# Altium footprint library Display adapter 20 to 20p4.5.2.PcbLib: 6 footprints
Each footprint in its own frame and in the unit in brackets; x right, y up, seen from the top. Pads: shape width x height; smd on the part's side, far side on the other; paste and mask are expansions set on the pad; w line width, h text height; cw(c..) or ccw(c..) is an arc to the next point about the centre after c.
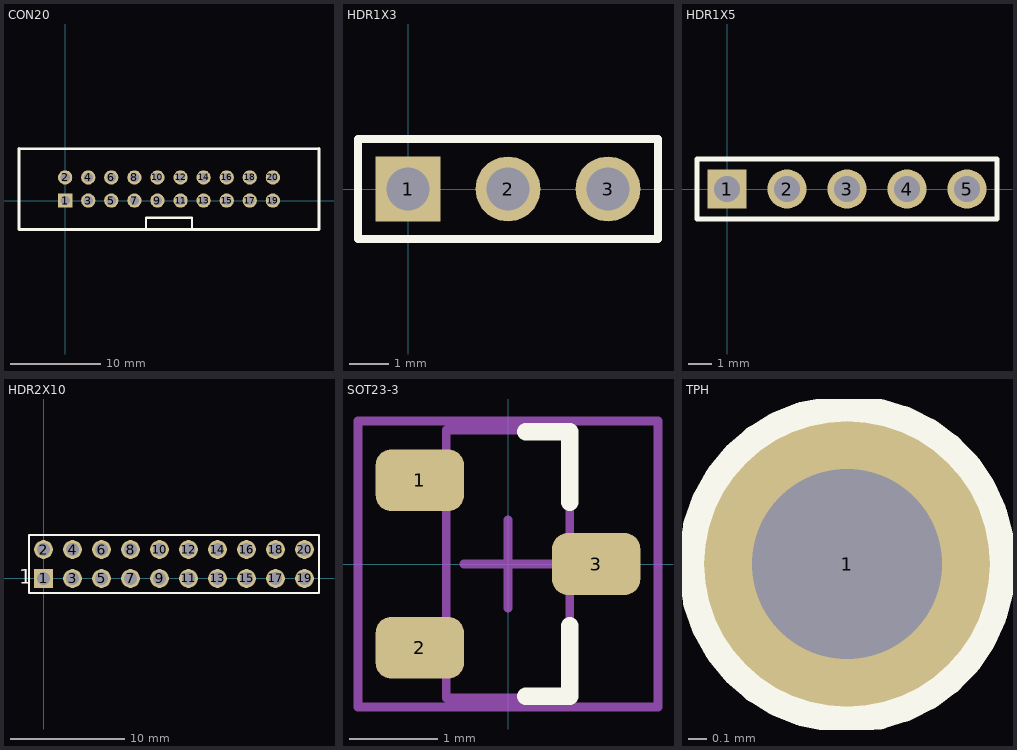
[diagram p0: the footprints below, top view; thin cyan lines are the x and y axes]

## CON20 [mil]
height 37.4
pads (20):
  rect 62x62 hole 40: 1(0,0)
  round 62 hole 40: 2(0,100) 3(100,0) 4(100,100) 5(200,0) 6(200,100) 7(300,0) 8(300,100) 9(400,0) 10(400,100) 11(500,0) 12(500,100) 13(600,0) 14(600,100) 15(700,0) 16(700,100) 17(800,0) 18(800,100) 19(900,0) 20(900,100)
Top Overlay:
  lines w10: -200,225 1100,225 ; 350,-125 350,-75 550,-75 550,-125
  lines w12: -200,225 -200,-125 1100,-125 1100,225

## HDR1X3 [mil]
height 47.24
pads (3):
  rect 65x65 hole 43.31: 1(0,0)
  round 65 hole 43.31: 2(100,0) 3(200,0)
Top Overlay:
  lines w7.87: -50,-50 -50,50 250,50 250,-50 -50,-50
3D body "User Library-Header_Male_3Pin.STEP": height 336.22, standoff -118.11, extent -50,-49.01 250,49.02

## HDR1X5 [mil]
pads (5):
  rect 65x65 hole 43.31: 1(0,0)
  round 65 hole 43.31: 2(100,0) 3(200,0) 4(300,0) 5(400,0)
Top Overlay:
  lines w7.87: -50,-50 -50,50 450,50 450,-50 -50,-50
3D body "User Library-Header_Male_5Pin.STEP": height 336.22, standoff -118.11, extent -50,-49.01 450,49.02

## HDR2X10 [mil]
height 43.31
pads (20):
  rect 65x65 hole 45: 1(0,0)
  round 65 hole 45: 2(0,100) 3(100,0) 4(100,100) 5(200,0) 6(200,100) 7(300,0) 8(300,100) 9(400,0) 10(400,100) 11(500,0) 12(500,100) 13(600,0) 14(600,100) 15(700,0) 16(700,100) 17(800,0) 18(800,100) 19(900,0) 20(900,100)
Top Overlay:
  lines w7.87: -50,-50 25,-50 950,-50 950,150 25,150 -50,150 -50,-50
  text "1" at -84.56,-17.46 h50

## SOT23-3 [mm] "SOT23, 3-Leads, Body 3.0x2.6mm (max), Pitch 0.95mm, IPC High Density"
height 1.12
pads (3):
  rrect50% 1x0.7 smd: 1(-1,0.95) 2(-1,-0.95) 3(1,0)
Top Overlay:
  lines w0.2: 0.2,-1.5 0.7,-1.5 0.7,-0.7 ; 0.2,1.5 0.7,1.5 0.7,0.7
Mechanical 13:
  lines w0.1: -0.7,-1.52 -0.7,1.52 0.7,1.52 0.7,-1.52 -0.7,-1.52
Mechanical 15:
  lines w0.1: -0.5,0 0.5,0 ; 0,-0.5 0,0.5 ; -1.7,-1.62 -1.7,1.62 1.7,1.62 1.7,-1.62 -1.7,-1.62
3D body "CircuitWorks-SOT-23.step": height 1.1, standoff 0, extent -1.25,-1.5 1.25,1.5

## TPH [mil] "Test Point - Hole"
height 37.4
pads (1):
  round 60 hole 40 mask+0: 1(0,0)
Top Overlay:
  circle w7.87: c0,0 r31.5